# Altium footprint library 429A-2-V1.0.13.PcbLib: 44 footprints (part 1 of 3)
Each footprint in its own frame and in the unit in brackets; x right, y up, seen from the top. Pads: shape width x height; smd on the part's side, far side on the other; paste and mask are expansions set on the pad; w line width, h text height; cw(c..) or ccw(c..) is an arc to the next point about the centre after c.
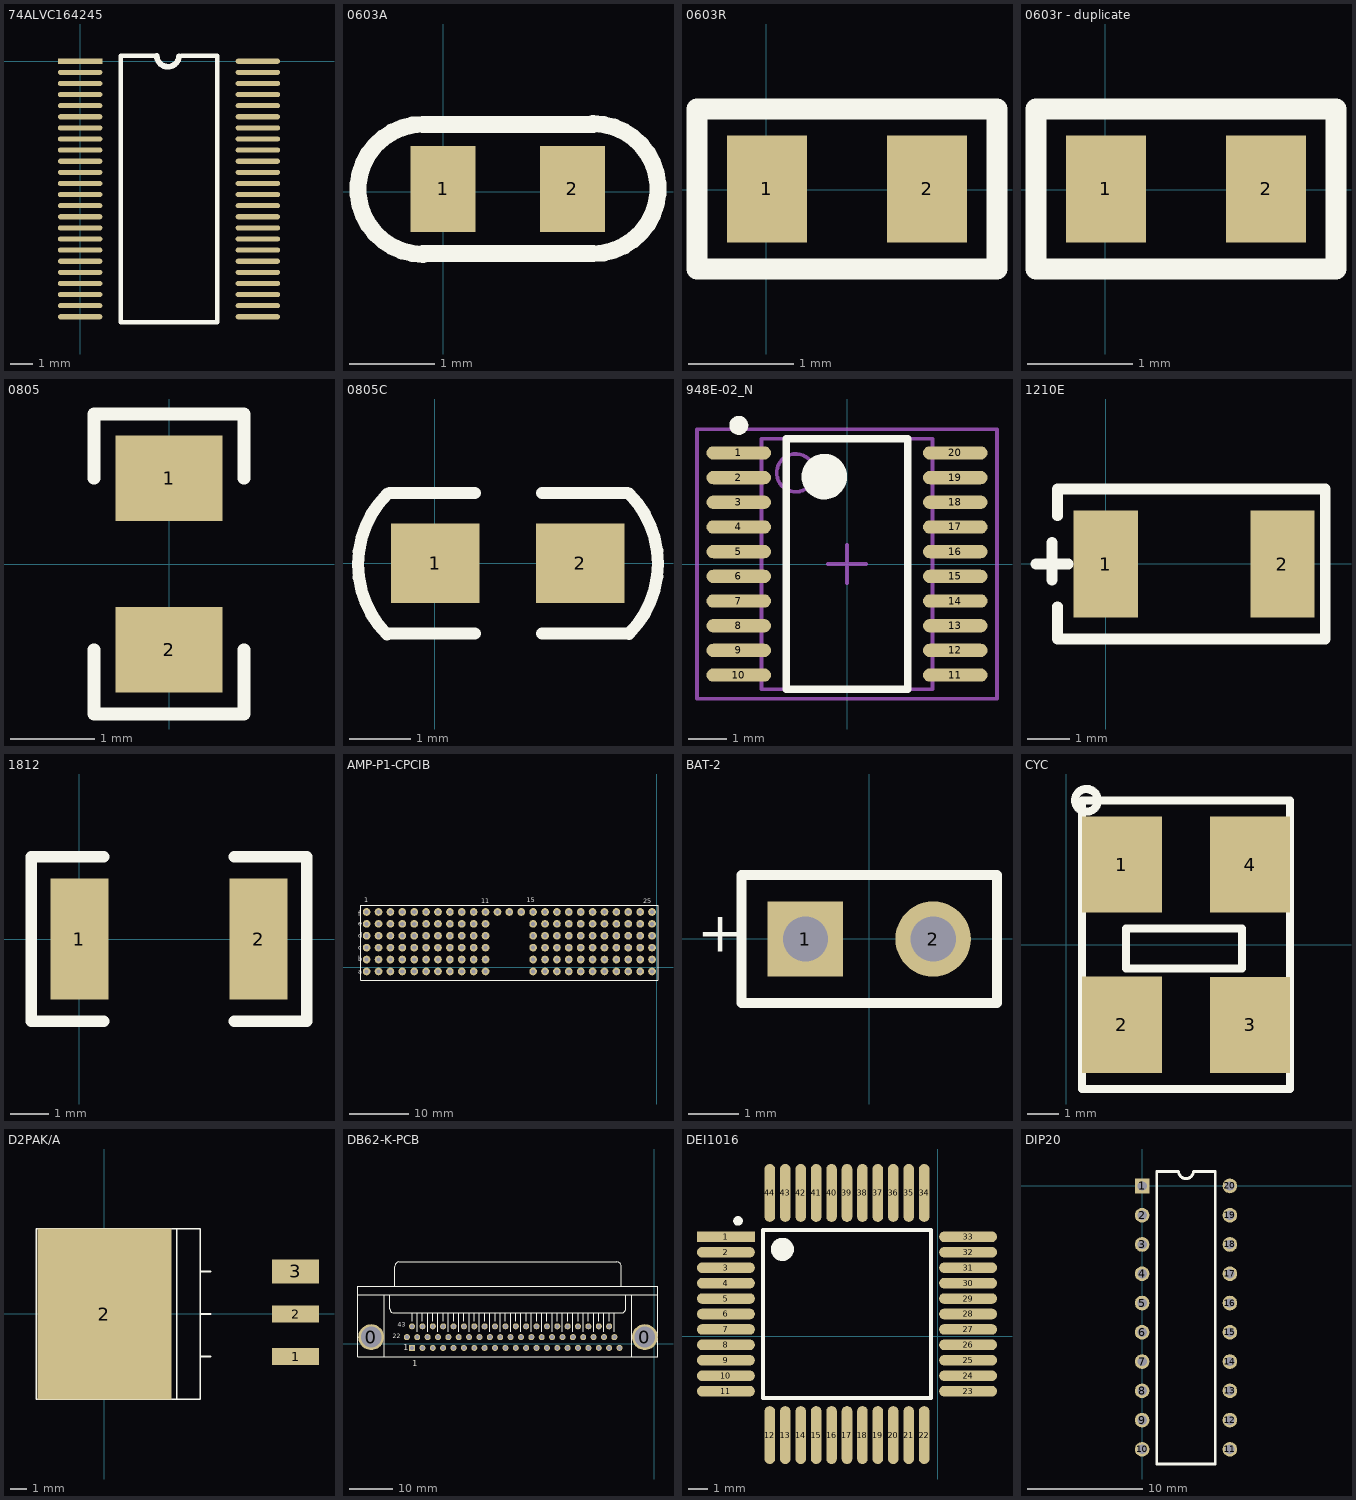
[diagram p0: the footprints below, top view; thin cyan lines are the x and y axes]

## 74ALVC164245 [mm]
pads (48):
  rect 2x0.23 smd: 1(0,0)
  oval 2x0.23 smd: 2(0,-0.5) 3(0,-1) 4(0,-1.5) 5(0,-2) 6(0,-2.5) 7(0,-3) 8(0,-3.5) 9(0,-4) 10(0,-4.5) 11(0,-5) 12(0,-5.5) 13(0,-6) 14(0,-6.5) 15(0,-7) 16(0,-7.5) 17(0,-8) 18(0,-8.5) 19(0,-9) 20(0,-9.5) 21(0,-10) 22(0,-10.5) 23(0,-11) 24(0,-11.5) 25(8,-11.5) 26(8,-11) 27(8,-10.5) 28(8,-10) 29(8,-9.5) 30(8,-9) 31(8,-8.5) 32(8,-8) 33(8,-7.5) 34(8,-7) 35(8,-6.5) 36(8,-6) 37(8,-5.5) 38(8,-5) 39(8,-4.5) 40(8,-4) 41(8,-3.5) 42(8,-3) 43(8,-2.5) 44(8,-2) 45(8,-1.5) 46(8,-1) 47(8,-0.5) 48(8,0)
Top Overlay:
  lines w0.2: 1.835,0.25 1.835,-11.75 6.165,-11.75 6.165,0.25
  lines w0.203: 1.835,0.25 3.45,0.25 ; 4.55,0.25 6.165,0.25
  lines w0.254: 3.45,0.25 ccw(c3.95,0.25) 4.449,0.212

## 0603A [mil]
height 755.91
pads (2):
  rect 30x40 smd: 1(-0.06,1.22) 2(59.94,1.22)
Top Overlay:
  lines w7.87: -9.31,-29.06 cw(c-9.31,1.08) -9.31,31.22 69.43,31.22 ; -9.31,-28.78 69.43,-28.78 ccw(c69.43,1.36) 69.43,31.5

## 0603R [mil]
height 755.91
pads (2):
  rect 30x40 smd: 1(0.19,0.25) 2(60.19,0.25)
Top Overlay:
  lines w7.87: 86.33,-29.79 86.33,30.25 -25.95,30.25 -25.95,-29.75 86.33,-29.75

## 0603r - duplicate [mil]
pads (2):
  rect 30x40 smd: 1(0.19,0.25) 2(60.19,0.25)
Top Overlay:
  lines w7.87: 86.33,-29.79 86.33,30.25 -25.95,30.25 -25.95,-29.75 86.33,-29.75

## 0805 [mil] "Thin QFP, 100-Leads, Body 14x14mm, Pitch 0.5mm, IPC Medium Densitum DensitActuati°C to +85°C, Surge = 13Tolerance, 10 WVDC @ -55°C to +85°C, Surge =um D"
pads (2):
  rect 50x40 smd: 1(0,40) 2(0,-40)
Top Overlay:
  lines w6: -35,-40 -35,-70 35,-70 35,-40 ; -35,40 -35,70 35,70 35,40

## 0805C [mm]
pads (2):
  rect 1.45x1.3 smd: 1(0.003,0) 2(2.382,0)
Top Overlay:
  lines w0.2: -0.785,-1.168 cw(c0.365,-0.018) -0.785,1.132 ; -0.747,-1.15 0.653,-1.15 ; -0.747,1.15 0.653,1.15 ; 1.753,-1.15 3.153,-1.15 ; 1.753,1.15 3.153,1.15 ; 3.178,-1.157 ccw(c2.028,-0.007) 3.178,1.143

## 948E-02_N [mm] "TSOP, 20-Leads, Body 6.5x4.4mm, Pitch 0.65mm, IPC Medium Density"
height 1.2
pads (20):
  oval 1.7x0.35 smd: 1(-2.85,2.925) 2(-2.85,2.275) 3(-2.85,1.625) 4(-2.85,0.975) 5(-2.85,0.325) 6(-2.85,-0.325) 7(-2.85,-0.975) 8(-2.85,-1.625) 9(-2.85,-2.275) 10(-2.85,-2.925) 11(2.85,-2.925) 12(2.85,-2.275) 13(2.85,-1.625) 14(2.85,-0.975) 15(2.85,-0.325) 16(2.85,0.325) 17(2.85,0.975) 18(2.85,1.625) 19(2.85,2.275) 20(2.85,2.925)
Top Overlay:
  circle w0.25: c-2.85,3.65 r0.125
  circle w0.6: c-0.6,2.3 r0.3
  lines w0.2: -1.6,-3.3 -1.6,3.3 1.6,3.3 1.6,-3.3 -1.6,-3.3
Mechanical 13:
  circle w0.1: c-1.35,2.4 r0.5
  lines w0.1: -2.25,-3.3 -2.25,3.3 2.25,3.3 2.25,-3.3 -2.25,-3.3
Mechanical 15:
  lines w0.1: -0.5,0 0.5,0 ; 0,-0.5 0,0.5 ; -3.95,-3.55 -3.95,3.55 3.95,3.55 3.95,-3.55 -3.95,-3.55
3D body: height 1.2, standoff 0, extent -2.25,-3.3 2.25,3.3

## 1210E [mil]
pads (2):
  rect 60x100 smd: 1(0,0) 2(165,0)
Top Overlay:
  lines w10: -65,0 -35,0 ; -50,-15 -50,20 ; -45,-40 -45,-70 35,-70 130,-70 205,-70 205,70 130,70 35,70 -45,70 -45,45

## 1812 [mil]
pads (2):
  rect 60x125 smd: 1(0,0) 2(185,0)
Top Overlay:
  lines w12: 25,-85 -50,-85 -50,85 25,85 ; 160,-85 235,-85 235,85 160,85

## AMP-P1-CPCIB [mm] "P1-->J1"
pads (135):
  round 1.3 hole 0.7: A1(-48.765,-0.682) A2(-46.765,-0.682) A3(-44.765,-0.682) A4(-42.765,-0.682) A5(-40.765,-0.682) A6(-38.765,-0.682) A7(-36.765,-0.682) A8(-34.765,-0.682) A9(-32.765,-0.682) A10(-30.765,-0.682) A11(-28.765,-0.682) A15(-20.765,-0.682) A16(-18.765,-0.682) A17(-16.765,-0.682) A18(-14.765,-0.682) A19(-12.765,-0.682) A20(-10.765,-0.682) A21(-8.765,-0.682) A22(-6.765,-0.682) A23(-4.765,-0.682) A24(-2.765,-0.682) A25(-0.765,-0.682) B1(-48.765,1.318) B2(-46.765,1.318) B3(-44.765,1.318) B4(-42.765,1.318) B5(-40.765,1.318) B6(-38.765,1.318) B7(-36.765,1.318) B8(-34.765,1.318) B9(-32.765,1.318) B10(-30.765,1.318) B11(-28.765,1.318) B15(-20.765,1.318) B16(-18.765,1.318) B17(-16.765,1.318) B18(-14.765,1.318) B19(-12.765,1.318) B20(-10.765,1.318) B21(-8.765,1.318) B22(-6.765,1.318) B23(-4.765,1.318) B24(-2.765,1.318) B25(-0.765,1.318) C1(-48.765,3.318) C2(-46.765,3.318) C3(-44.765,3.318) C4(-42.765,3.318) C5(-40.765,3.318) C6(-38.765,3.318) C7(-36.765,3.318) C8(-34.765,3.318) C9(-32.765,3.318) C10(-30.765,3.318) C11(-28.765,3.318) C15(-20.765,3.318) C16(-18.765,3.318) C17(-16.765,3.318) C18(-14.765,3.318) C19(-12.765,3.318) C20(-10.765,3.318) C21(-8.765,3.318) C22(-6.765,3.318) C23(-4.765,3.318) C24(-2.765,3.318) C25(-0.765,3.318) D1(-48.765,5.318) D2(-46.765,5.318) D3(-44.765,5.318) D4(-42.765,5.318) D5(-40.765,5.318) D6(-38.765,5.318) D7(-36.765,5.318) D8(-34.765,5.318) D9(-32.765,5.318) D10(-30.765,5.318) D11(-28.765,5.318) D15(-20.765,5.318) D16(-18.765,5.318) D17(-16.765,5.318) D18(-14.765,5.318) D19(-12.765,5.318) D20(-10.765,5.318) D21(-8.765,5.318) D22(-6.765,5.318) D23(-4.765,5.318) D24(-2.765,5.318) D25(-0.765,5.318) E1(-48.765,7.318) E2(-46.765,7.318) E3(-44.765,7.318) E4(-42.765,7.318) E5(-40.765,7.318) E6(-38.765,7.318) E7(-36.765,7.318) E8(-34.765,7.318) E9(-32.765,7.318) E10(-30.765,7.318) E11(-28.765,7.318) E15(-20.765,7.318) E16(-18.765,7.318) E17(-16.765,7.318) E18(-14.765,7.318) E19(-12.765,7.318) E20(-10.765,7.318) E21(-8.765,7.318) E22(-6.765,7.318) E23(-4.765,7.318) E24(-2.765,7.318) E25(-0.765,7.318) F1(-48.765,9.318) F2(-46.765,9.318) F3(-44.765,9.318) F4(-42.765,9.318) F5(-40.765,9.318) F6(-38.765,9.318) F7(-36.765,9.318) F8(-34.765,9.318) F9(-32.765,9.318) F10(-30.765,9.318) F11(-28.765,9.318) F12(-26.765,9.318) F13(-24.765,9.318) F14(-22.765,9.318) F15(-20.765,9.318) F16(-18.765,9.318) F16(-14.765,9.318) F17(-16.765,9.318) F19(-12.765,9.318) F20(-10.765,9.318) F21(-8.765,9.318) F22(-6.765,9.318) F23(-4.765,9.318) F24(-2.765,9.318) F25(-0.765,9.318)
Top Overlay:
  lines w0.2: -49.784,-2.159 0.216,-2.159 ; -49.765,-2.182 -49.765,10.418 0.235,10.418 0.235,-2.182
  text "11" at -29.464,10.795 h0.8
  text "1" at -49.149,10.922 h0.8
  text "f" at -50.165,8.568 h0.8
  text "a" at -50.165,-1.082 h0.8
  text "b" at -50.165,1.018 h0.8
  text "c" at -50.215,2.993 h0.8
  text "d" at -50.19,5.018 h0.8
  text "e" at -50.165,6.993 h0.8
  text "15" at -21.844,10.922 h0.8
  text "25" at -2.286,10.795 h0.8

## BAT-2 [mm] "Multicell Battery; 2 Leads"
pads (2):
  rect 1.5x1.5 hole 0.9: 1(-1.27,0)
  round 1.5 hole 0.9: 2(1.27,0)
Top Overlay:
  lines w0.2: -2.54,-1.27 -2.54,1.27 2.54,1.27 2.54,-1.27 -2.54,-1.27
  text "+" at -3.425,-0.25 h0.8

## CYC [mil]
pads (4):
  rect 100x120 smd: 1(69.64,100) 2(69.66,-99.98) 3(229.64,-100) 4(229.64,100)
Top Overlay:
  circle w10: c25.46,180 r14.18
  lines w10: 19.64,-180 19.64,180 279.64,180 279.64,-180 19.64,-180 ; 74.66,-29.98 219.66,-29.98 219.66,20.02 74.66,20.02 74.66,-24.98 74.66,-29.98

## D2PAK/A [mm]
pads (4):
  rect 2.8x1 smd: 1(11.4,-2.54) 2(11.4,0)
  rect 8x10.2 smd: 2(0,0)
  rect 2.8x1.42 smd: 3(11.4,2.54)
Top Overlay:
  lines w0.1: 4.318,-5.08 4.318,5.08 ; 5.715,-2.54 6.35,-2.54 ; 5.715,0 6.35,0 ; 5.715,2.54 6.35,2.54 ; -4.064,-5.08 -4.064,-4.572 -4.064,-2.794 -4.064,2.921 -4.064,4.318 -4.064,5.08 5.715,5.08 5.715,-5.08 -4.064,-5.08

## DB62-K-PCB [mm]
pads (64):
  round 6 hole 4.8: 0(-65.47,1.484) 0(-2.17,1.484)
  rect 1.4x1.4 hole 0.9: 1(-56.02,-1.016)
  round 1.4 hole 0.9: 2(-53.62,-1.016) 3(-51.22,-1.016) 4(-48.82,-1.016) 5(-46.42,-1.016) 6(-44.02,-1.016) 7(-41.62,-1.016) 8(-39.22,-1.016) 9(-36.82,-1.016) 10(-34.42,-1.016) 11(-32.02,-1.016) 12(-29.62,-1.016) 13(-27.22,-1.016) 14(-24.82,-1.016) 15(-22.42,-1.016) 16(-20.02,-1.016) 17(-17.62,-1.016) 18(-15.22,-1.016) 19(-12.82,-1.016) 20(-10.42,-1.016) 21(-8.02,-1.016) 22(-57.22,1.484) 23(-54.82,1.484) 24(-52.42,1.484) 25(-50.02,1.484) 26(-47.62,1.484) 27(-45.22,1.484) 28(-42.82,1.484) 29(-40.42,1.484) 30(-38.02,1.484) 31(-35.62,1.484) 32(-33.22,1.484) 33(-30.82,1.484) 34(-28.42,1.484) 35(-26.02,1.484) 36(-23.62,1.484) 37(-21.22,1.484) 38(-18.82,1.484) 39(-16.42,1.484) 40(-14.02,1.484) 41(-11.62,1.484) 42(-9.22,1.484) 43(-56.02,3.984) 44(-53.62,3.984) 45(-51.22,3.984) 46(-48.82,3.984) 47(-46.42,3.984) 48(-44.02,3.984) 49(-41.62,3.984) 50(-39.22,3.984) 51(-36.82,3.984) 52(-34.42,3.984) 53(-32.02,3.984) 54(-29.62,3.984) 55(-27.22,3.984) 56(-24.82,3.984) 57(-22.42,3.984) 58(-20.02,3.984) 59(-17.62,3.984) 60(-15.22,3.984) 61(-12.82,3.984) 62(-10.42,3.984)
Top Overlay:
  lines w0.254: -68.52,11.284 0.88,11.284 ; -62.42,-3.016 -62.42,11.284 ; -61.12,11.284 -61.12,8.084 ccw(c-60.22,7.984) -60.22,7.078 ; -60.214,7.084 -7.626,7.084 ccw(c-7.526,7.984) -6.62,7.984 -6.62,11.184 ; -60.02,13.284 -60.02,17.784 ; -60.01,17.884 cw(c-59.02,17.884) -59.143,18.866 ; -59.135,18.874 -8.62,18.874 cw(c-8.62,17.884) -7.638,18.007 -7.638,13.302 ; -56.02,5.184 -56.02,7.084 ; -54.82,2.684 -54.82,7.084 ; -53.62,5.184 -53.62,7.084 ; -52.42,2.684 -52.42,7.084 ; -51.22,5.184 -51.22,7.084 ; -50.02,2.684 -50.02,7.084 ; -48.82,5.184 -48.82,7.084 ; -47.62,2.684 -47.62,7.084 ; -46.42,5.184 -46.42,7.084 ; -45.22,2.684 -45.22,7.084 ; -44.02,5.184 -44.02,7.084 ; -42.82,2.684 -42.82,7.084 ; -41.62,5.184 -41.62,7.084 ; -40.42,2.684 -40.42,7.084 ; -39.22,5.184 -39.22,7.084 ; -38.02,2.684 -38.02,7.084 ; -36.82,5.184 -36.82,7.084 ; -35.62,2.684 -35.62,7.084 ; -34.42,5.184 -34.42,7.084 ; -33.22,2.684 -33.22,7.084 ; -32.02,5.184 -32.02,7.084 ; -30.82,2.684 -30.82,7.084 ; -29.62,5.184 -29.62,7.084 ; -28.42,2.684 -28.42,7.084 ; -27.22,5.184 -27.22,7.084 ; -26.02,2.684 -26.02,7.084 ; -24.82,5.184 -24.82,7.084 ; -23.62,2.684 -23.62,7.084 ; -22.42,5.184 -22.42,7.084 ; -21.22,2.684 -21.22,7.084 ; -20.02,5.184 -20.02,7.084 ; -18.82,2.684 -18.82,7.084 ; -17.62,5.184 -17.62,7.084 ; -16.42,2.684 -16.42,7.084 ; -15.22,5.184 -15.22,7.084 ; -14.02,2.684 -14.02,7.084 ; -12.82,5.184 -12.82,7.084 ; -11.62,2.684 -11.62,7.084 ; -10.42,5.184 -10.42,7.084 ; -9.22,2.684 -9.22,7.084 ; -5.22,-3.016 -5.22,11.284 ; -68.52,-3.016 0.88,-3.016 0.88,13.284 -68.52,13.284 -68.52,-3.016
  text "1" at -56.007,-5.207 h1.4
  text "1" at -58.039,-1.524 h1.4
  text "22" at -60.452,1.27 h1
  text "43" at -59.309,3.937 h1

## DEI1016 [mm]
pads (44):
  rect 3x0.55 smd: 1(-10.974,5.143)
  oval 3x0.55 smd: 2(-10.974,4.343) 3(-10.974,3.543) 4(-10.974,2.743) 5(-10.974,1.943) 6(-10.974,1.143) 7(-10.974,0.343) 8(-10.974,-0.457) 9(-10.974,-1.257) 10(-10.974,-2.057) 11(-10.974,-2.857) 23(1.576,-2.857) 24(1.576,-2.057) 25(1.576,-1.257) 26(1.576,-0.457) 27(1.576,0.343) 28(1.576,1.143) 29(1.576,1.943) 30(1.576,2.743) 31(1.576,3.543) 32(1.576,4.343) 33(1.576,5.143)
  oval 0.55x3 smd: 12(-8.699,-5.132) 13(-7.899,-5.132) 14(-7.099,-5.132) 15(-6.299,-5.132) 16(-5.499,-5.132) 17(-4.699,-5.132) 18(-3.899,-5.132) 19(-3.099,-5.132) 20(-2.299,-5.132) 21(-1.499,-5.132) 22(-0.699,-5.132) 34(-0.699,7.418) 35(-1.499,7.418) 36(-2.299,7.418) 37(-3.099,7.418) 38(-3.899,7.418) 39(-4.699,7.418) 40(-5.499,7.418) 41(-6.299,7.418) 42(-7.099,7.418) 43(-7.899,7.418) 44(-8.699,7.418)
Top Overlay:
  circle w0.6: c-8.049,4.493 r0.3
  circle w0.25: c-10.349,5.968 r0.125
  lines w0.2: -9.049,-3.207 -0.349,-3.207 -0.349,5.493 -9.049,5.493 -9.049,-3.207
3D body: height 1.5, standoff 0, extent -9.699,-3.857 0.301,6.143

## DIP20 [mil]
height 755.91
pads (20):
  rect 50x50 hole 32: 1(0,0)
  round 50 hole 32: 2(0,-100) 4(0,-300) 5(0,-400) 6(0,-500) 7(0,-600) 8(0,-700) 9(0,-800) 10(0,-900) 11(300,-900) 12(300,-800) 13(300,-700) 14(300,-600) 15(300,-500) 16(300,-400) 17(300,-300) 18(300,-200) 19(300,-100) 20(300,0)
  round 50 hole 32.01: 3(0,-200)
Top Overlay:
  lines w10: 50,-950 50,50 125,50 ccw(c150,50) 175,50 250,50 250,-950 50,-950